# Altium schematic symbol library Ultrasound.SchLib: 31 symbols
Pins are listed as number, name and electrical type; pins without a type are passive.

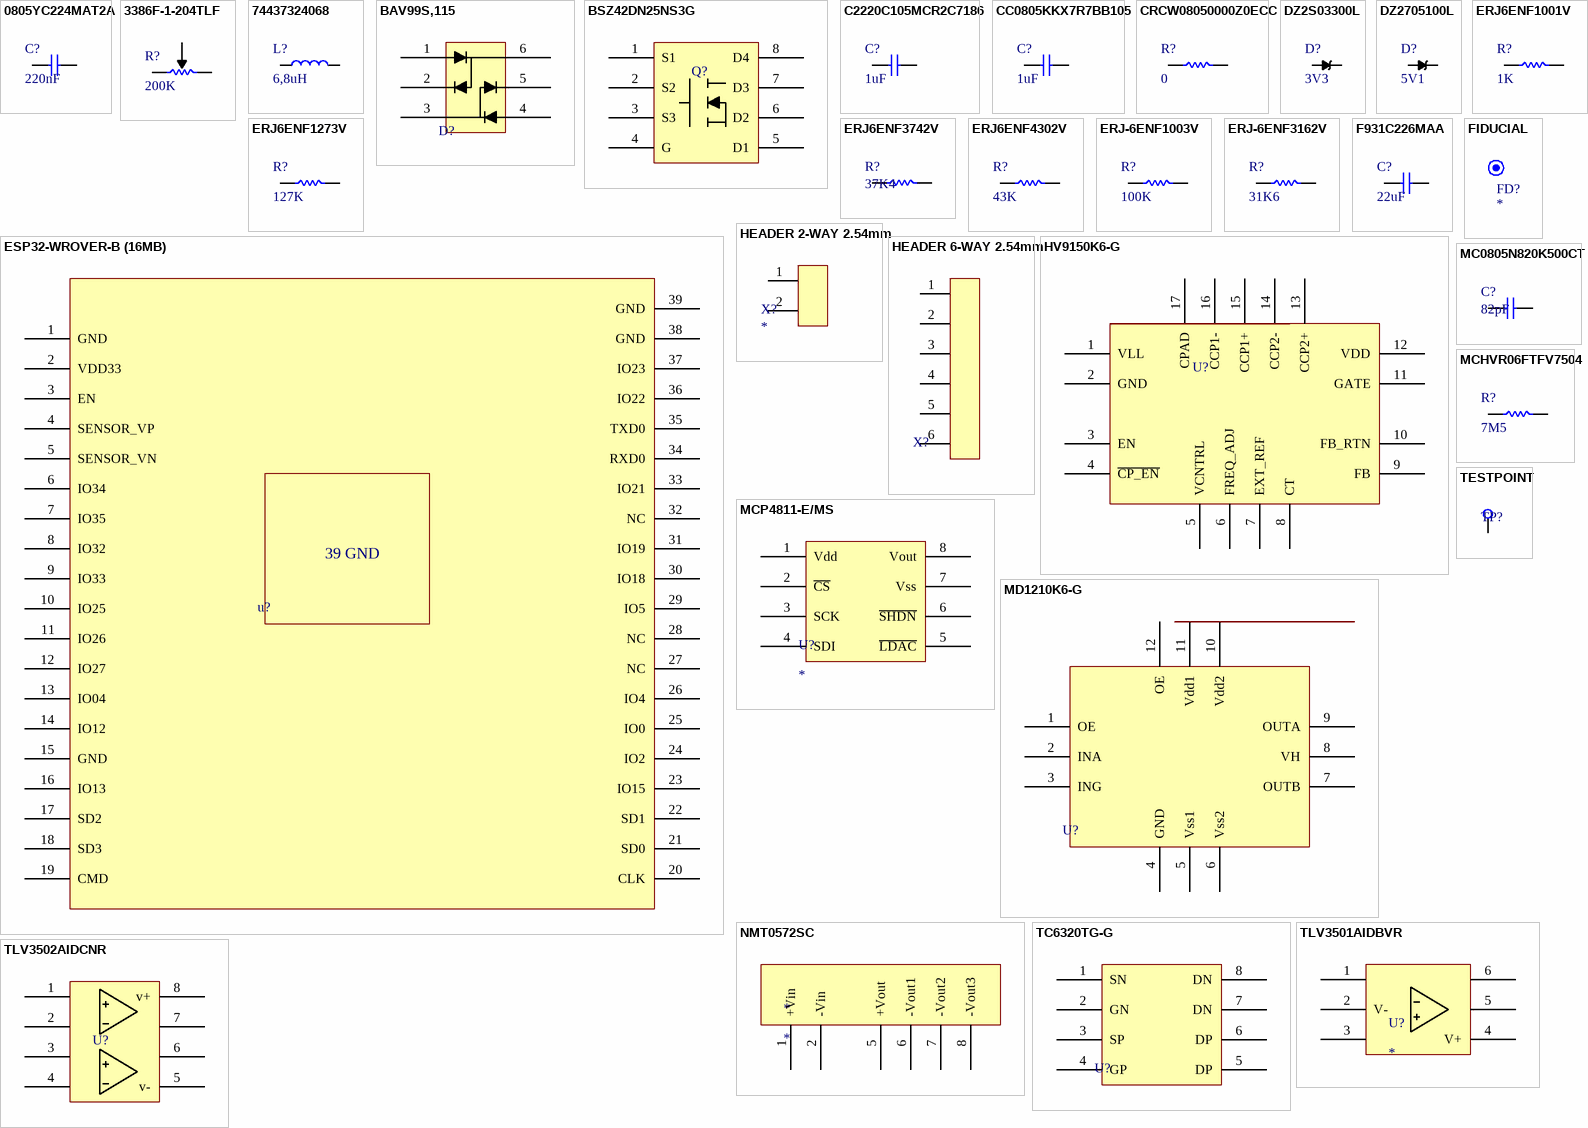
[diagram p0: symbols 0805YC224MAT2A to TLV3502AIDCNR]

## 0805YC224MAT2A
designator C?, comment 220nF
CAPACITOR 220nF 0805 20%16V; Manufacturer: Kyocera AVX; Manufacturer Part Number: 0805YC224MAT2A; Tolerance: 20%; Voltage Rating: 16V; Dielectric: X7R; Dissipation Factor: 3.5%; Supplier 1: Farnell; Stock 1: 0; Pricing 1: 4000=0.0977, 8000=0.0958, 16000=0.0934 (EUR); Mount: Surface Mount; Case/Package: 0805; Number of Pins: 2; Case Code (Imperial): 0805; Case Code (Metric): 2012; Min Operating Temperature: -55°C; Max Operating Temperature: 125°C; Capacitance: 220nF; Packaging: Tape and Reel; Package Quantity: 4000; Voltage Rating (DC): 16V; Termination: SMD/SMT; Length: 2.01mm; Height: 0.94mm; Width: 1.25mm; Thickness: 0.037inch; Depth: 1.25mm; REACH SVHC: Unknown; Lead Free: Lead Free; ComponentLink1URL: http://www.mouser.com/ds/2/40/X7RDielectric-777024.pdf?src-supplier=Mouser; ComponentLink1Description: http://www.mouser.com/ds/2/40/X7RDielectric-777024.pdf?src-supplier=Mouser; ComponentLink2URL: http://www.avx.com/docs/Catalogs/cx7r.pdf?src-supplier=Avnet; ComponentLink2Description: http://www.avx.com/docs/Catalogs/cx7r.pdf?src-supplier=Avnet; ComponentLink3URL: http://datasheets.avx.com/X7RDielectric.pdf?src-supplier=Digi-Key; ComponentLink3Description: http://datasheets.avx.com/X7RDielectric.pdf?src-supplier=Digi-Key; Value: 220nF
footprint CAP 0805/2012 (Chip Capacitor, 2-Leads, Body 2.00x1.20mm, IPC Medium Density)
pins: 1, 2

## 3386F-1-204TLF
designator R?, comment 200K
POT 200K 3386F 10% 500mW trimmer potentiometer; Manufacturer: Bourns; Manufacturer Part Number: 3386F-1-204TLF; Resistance: 200kR; Voltage Rating: 300V; Temperature Coefficient: 100ppm/°C; Number of Turns: 1; Supplier 1: Mouser; Stock 1: 198; Pricing 1: 1=2.48, 10=1.95, 50=1.88, 100=1.73, 1000=1.35, 10000=1.08 (USD); Mount: Through Hole; Weight: 0.03oz; Min Operating Temperature: -55°C; Max Operating Temperature: 125°C; Tolerance: 10%; Power Rating: 500mW; Packaging: Rail/Tube; Package Quantity: 100; Composition: Cermet; Termination: Pin; Max Power Dissipation: 500mW; Military Standard: Not; Length: 9.53mm; Height: 0.19inch; Depth: 9.53mm; Radiation Hardening: No; REACH SVHC: No SVHC; ComponentLink1URL: http://uk.rs-online.com/webdocs/069c/0900766b8069ccf9.pdf?src-supplier=RSComponents; ComponentLink1Description: http://uk.rs-online.com/webdocs/069c/0900766b8069ccf9.pdf?src-supplier=RSComponents; ComponentLink2URL: http://www.farnell.com/datasheets/1815119.pdf?src-supplier=Element14; ComponentLink2Description: http://www.farnell.com/datasheets/1815119.pdf?src-supplier=Element14; ComponentLink3URL: http://www.bourns.com/data/global/pdfs/3386.pdf?src-supplier=Avnet; ComponentLink3Description: http://www.bourns.com/data/global/pdfs/3386.pdf?src-supplier=Avnet; ComponentLink4URL: http://www.bourns.com/docs/Product-Datasheets/3386.pdf?src-supplier=Digi-Key; ComponentLink4Description: http://www.bourns.com/docs/Product-Datasheets/3386.pdf?src-supplier=Digi-Key; Value: 200K
footprint BOURNS 3386F
pins: 1, 2, 3

## 74437324068
designator L?, comment 6,8uH
INDUCTOR 6,8 uH 20% 1,75 A; Manufacturer: Wurth Electronics; Manufacturer Part Number: 74437324068; Core Material: Ferrite,Composite; Frequency: 29MHz; Current Rating: 1.75A; Saturation Current: 3.5A; Shielding: Shielded; Inductance: 6.8uH; DC Resistance (DCR): 172mR; Test Frequency: 100kHz; Supplier 1: Farnell; Stock 1: 0; Mount: Surface Mount; Case/Package: Nonstandard; Min Operating Temperature: -40°C; Max Operating Temperature: 125°C; Tolerance: 20%; Inductance Tolerance: 20%; Package Quantity: 3000; Packaging: Tape and Reel; Self Resonant Frequency: 29MHz; Composition: Wirewound; Max DC Current: 1.75A; Termination: SMD/SMT; RMS Current (Irms): 1.75A; Series Resistance: 172mR; Length: 4.45mm; Height: 1.8mm; Width: 4.06mm; Height - Seated (Max): 0.079inch; Depth: 4.06mm; REACH SVHC: Unknown; ComponentLink1URL: http://www.farnell.com/datasheets/1735828.pdf?src-supplier=Element14; ComponentLink1Description: http://www.farnell.com/datasheets/1735828.pdf?src-supplier=Element14; ComponentLink2URL: http://katalog.we-online.de/pbs/datasheet/74437324068.pdf?src-supplier=Digi-Key; ComponentLink2Description: http://katalog.we-online.de/pbs/datasheet/74437324068.pdf?src-supplier=Digi-Key; ComponentLink3URL: http://www.mouser.com/ds/2/445/74437324068-538785.pdf?src-supplier=Mouser; ComponentLink3Description: http://www.mouser.com/ds/2/445/74437324068-538785.pdf?src-supplier=Mouser; Value: 6,8uH
footprint WE-LHMI_4020 (SMT Power Inductor, 2-Leads, body 4.06x4.06mm)
pins: 1, 2

## BAV99S,115
designator D?  (value not drawn)
BAV99S Diodes 100 V; Manufacturer: NXP Semiconductors; Manufacturer Part Number: BAV99S,115; Forward Current: 200mA; Reverse Recovery Time: 4ns; Max Repetitive Reverse Voltage (Vrrm): 100V; Forward Voltage: 1.25V; Peak Non-Repetitive Surge Current: 4A; Max Reverse Leakage Current: 500nA; Power Dissipation: 250mW; Voltage: 75V; Current: 2A; Supplier 1: Farnell; Stock 1: 54000; Pricing 1: 3000=0.0431, 9000=0.0336 (EUR); Mount: Surface Mount; Case/Package: TSSOP; Number of Pins: 6; Weight: 0.01lb; Min Operating Temperature: -65°C; Max Operating Temperature: 150°C; Packaging: Tape and Reel; Max Reverse Voltage (DC): 100V; Average Rectified Current: 200mA; Max Surge Current: 4A; Recovery Time: 4ns; Package Quantity: 1; Max Forward Surge Current (Ifsm): 4A; Peak Reverse Current: 500nA; Length: 2.2mm; Height: 1mm; Width: 1.35mm; Radiation Hardening: No; Lead Free: Lead Free; REACH SVHC: No SVHC; ComponentLink1URL: http://www.nxp.com/documents/data_sheet/BAV99_SER.pdf?ecmp=mouser&src-supplier=Mouser; ComponentLink1Description: http://www.nxp.com/documents/data_sheet/BAV99_SER.pdf?ecmp=mouser&src-supplier=Mouser; ComponentLink2URL: http://www.nxp.com/documents/data_sheet/BAV99_SER.pdf?src-supplier=Future+Electronics; ComponentLink2Description: http://www.nxp.com/documents/data_sheet/BAV99_SER.pdf?src-supplier=Future+Electronics; ComponentLink3URL: http://www.farnell.com/datasheets/953882.pdf?src-supplier=Element14; ComponentLink3Description: http://www.farnell.com/datasheets/953882.pdf?src-supplier=Element14; ComponentLink4URL: http://www.nxp.com/documents/data_sheet/BAV99_SER.pdf?src-supplier=Avnet+Europe; ComponentLink4Description: http://www.nxp.com/documents/data_sheet/BAV99_SER.pdf?src-supplier=Avnet+Europe; ComponentLink5URL: http://www.farnell.com/datasheets/953882.pdf?src-supplier=Farnell; ComponentLink5Description: http://www.farnell.com/datasheets/953882.pdf?src-supplier=Farnell; ComponentLink6URL: http://www.nxp.com/documents/data_sheet/BAV99_SER.pdf?src-supplier=Avnet; ComponentLink6Description: http://www.nxp.com/documents/data_sheet/BAV99_SER.pdf?src-supplier=Avnet; ComponentLink7URL: http://www.nxp.com/documents/data_sheet/BAV99_SER.pdf?src-supplier=Digi-Key; ComponentLink7Description: http://www.nxp.com/documents/data_sheet/BAV99_SER.pdf?src-supplier=Digi-Key; ComponentLink8URL: http://www.nxp.com/documents/data_sheet/BAV99_SER.pdf?src-supplier=Avnet+Asia; ComponentLink8Description: http://www.nxp.com/documents/data_sheet/BAV99_SER.pdf?src-supplier=Avnet+Asia
footprint SOT-363 (SOT363, 6-Leads, Body 2.00x2.10mm, Pitch 0.65mm, IPC Medium Density)
pins: 1, 2, 3, 4, 5, 6

## BSZ42DN25NS3G
designator Q?  (value not drawn)
BSZ42DN25NS3G 250 V MOSFET; Manufacturer: Infineon; Continuous Drain Current (ID): 5A; Turn-Off Delay Time: 8ns; Turn-On Delay Time: 3ns; Gate to Source Voltage (Vgs): 20V; Rise Time: 2ns; Input Capacitance: 530pF; Max Power Dissipation: 40W; Drain to Source Resistance: 425mR; Element Configuration: Single; Rds On Max: 400mR; Drain to Source Breakdown Voltage: 250V; Fall Time: 5ns; Power Dissipation: 33.8W; Supplier 1: Mouser; Manufacturer Part Number: BSZ42DN25NS3G; Stock 1: 0; Case/Package: TO-220-3; Number of Pins: 8; Min Operating Temperature: -55°C; Max Operating Temperature: 150°C; Package Quantity: 1; Packaging: Tape and Reel; Length: 3.4mm; Height: 1.1mm; Width: 3.4mm; Halogen Free: Halogen Free; ComponentLink1URL: http://www.infineon.com/dgdl/BSZ42DN25NS3+Rev2.2.pdf?folderId=db3a304325305e6d012596c6ca7b290a&fileId=db3a30432ad629a6012b15e5a93b1a8b&src-supplier=Digi-Key; ComponentLink1Description: http://www.infineon.com/dgdl/BSZ42DN25NS3+Rev2.2.pdf?folderId=db3a304325305e6d012596c6ca7b290a&fileId=db3a30432ad629a6012b15e5a93b1a8b&src-supplier=Digi-Key; ComponentLink2URL: http://www.mouser.com/ds/2/196/BSZ42DN25NS3%20Rev2.3-91542.pdf?src-supplier=Mouser; ComponentLink2Description: http://www.mouser.com/ds/2/196/BSZ42DN25NS3%20Rev2.3-91542.pdf?src-supplier=Mouser
footprint BSZ42DN25NS3
pins: 1 S1, 2 S2, 3 S3, 4 G, 5 D1, 6 D2, 7 D3, 8 D4

## C2220C105MCR2C7186
designator C?, comment 1uF
CAPACITOR 1uF 2220 20% 500V; Manufacturer: KEMET; Manufacturer Part Number: C2220C105MCR2C7186; Dielectric Material: Ceramic; Dielectric: X7R; Voltage Rating (DC): 1kV; Supplier 1: Farnell; Stock 1: 0; Mount: Surface Mount; Case/Package: 2220; Case Code (Imperial): 2220; Case Code (Metric): 5650; Min Operating Temperature: -55°C; Max Operating Temperature: 125°C; Tolerance: 20%; Capacitance: 1uF; Package Quantity: 1; Voltage Rating: 500V; Packaging: Tape and Reel; Termination: SMD/SMT; Length: 6mm; Height: 5mm; Width: 5mm; Thickness: 0.217inch; Depth: 5mm; ComponentLink1URL: https://search.kemet.com/component-edge/download/datasheet/C2220C105MCR2C7186.pdf?src-supplier=Digi-Key; ComponentLink1Description: https://search.kemet.com/component-edge/download/datasheet/C2220C105MCR2C7186.pdf?src-supplier=Digi-Key; ComponentLink2URL: https://api.kemet.com/component-edge/download/datasheet/C2220C105MCR2C7186.pdf?src-supplier=Digi-Key; ComponentLink2Description: https://api.kemet.com/component-edge/download/datasheet/C2220C105MCR2C7186.pdf?src-supplier=Digi-Key; Value: 1uF
footprint CAP 2220/5650 (Chip Capacitor, 2-Leads, Body 5.70x5.00mm, IPC Medium Density)
pins: 1, 2

## CC0805KKX7R7BB105
designator C?, comment 1uF
CAPACITOR 1uF 0805 10% 16V; Manufacturer: Yageo; Manufacturer Part Number: CC0805KKX7R7BB105; Dielectric: X7R; Supplier 1: Farnell; Stock 1: 0; Mount: Surface Mount; Case/Package: 0805; Case Code (Metric): 2012; Case Code (Imperial): 0805; Min Operating Temperature: -55°C; Max Operating Temperature: 125°C; Capacitance: 1uF; Tolerance: 10%; Packaging: Tape and Reel; Voltage Rating: 16V; Package Quantity: 1; Termination: SMD/SMT; Voltage Rating (DC): 16V; Length: 2mm; Depth: 1.25mm; Width: 0.049inch; Thickness: 0.049inch; Radiation Hardening: No; REACH SVHC: No SVHC; Lead Free: Lead Free; Halogen Free: Halogen Free; ComponentLink1URL: http://www.yageo.com/documents/recent/UPY-GPHC_X7R_6.3V-to-50V_18.pdf?src-supplier=Digi-Key; ComponentLink1Description: http://www.yageo.com/documents/recent/UPY-GPHC_X7R_6.3V-to-50V_18.pdf?src-supplier=Digi-Key; ComponentLink2URL: http://www.mouser.com/ds/2/447/Yageo_UPY-GP_NP0_16V-to-50V_9-358835.pdf?src-supplier=Mouser; ComponentLink2Description: http://www.mouser.com/ds/2/447/Yageo_UPY-GP_NP0_16V-to-50V_9-358835.pdf?src-supplier=Mouser; ComponentLink3URL: https://www.verical.com/server-webapp/html/getDatasheet?partID=251802&src-supplier=Verical; ComponentLink3Description: https://www.verical.com/server-webapp/html/getDatasheet?partID=251802&src-supplier=Verical; ComponentLink4URL: http://www.farnell.com/datasheets/1489800.pdf?src-supplier=Element14; ComponentLink4Description: http://www.farnell.com/datasheets/1489800.pdf?src-supplier=Element14; ComponentLink5URL: http://www.yageo.com/documents/recent/UPY-GPHC_X7R_6.3V-to-50V_8.pdf?src-supplier=Avnet; ComponentLink5Description: http://www.yageo.com/documents/recent/UPY-GPHC_X7R_6.3V-to-50V_8.pdf?src-supplier=Avnet; Value: 1uF
footprint CAP 0805/2012 (Chip Capacitor, 2-Leads, Body 2.00x1.20mm, IPC Medium Density)
pins: 1, 2

## CRCW08050000Z0ECC
designator R?, comment 0
RESISTOR 0K 0805 1% 1/8mW; Manufacturer: Vishay Dale; Manufacturer Part Number: CRCW08050000Z0ECC; Supplier 1: Mouser; Stock 1: 39810; Pricing 1: 1=0.1, 10=0.029, 50=0.029, 100=0.011, 1000=0.004, 10000=0.004 (USD); Value: 0
footprint RES 0805/2012 (Chip Resistor, 2-Leads, Body 2.00x1.25mm, IPC Medium Density)
pins: 1, 2

## DZ2S03300L
designator D?, comment 3V3
ZENER Diode 3V3; Manufacturer: Panasonic SSG; Manufacturer Part Number: DZ2S03300L; Tolerance: 5%; Max Power Dissipation: 150mW; Impedance: 130R; Max Reverse Leakage Current: 20uA; Zener Voltage: 3.3V; Test Current: 5mA; Element Configuration: Single; Supplier 1: Mouser; Stock 1: 3405; Pricing 1: 1=0.46, 10=0.307, 50=0.307, 100=0.191, 1000=0.128, 10000=0.1 (USD); Mount: Surface Mount; Number of Pins: 2; Min Operating Temperature: -40°C; Max Operating Temperature: 150°C; Package Quantity: 3000; Packaging: Tape and Reel; Voltage Tolerance: 5%; Power Dissipation: 150mW; Length: 1.2mm; Height: 0.6mm; Width: 0.8mm; ComponentLink1URL: http://www.mouser.com/ds/2/315/DZ2S033_CED-219741.pdf?src-supplier=Mouser; ComponentLink1Description: http://www.mouser.com/ds/2/315/DZ2S033_CED-219741.pdf?src-supplier=Mouser; Value: 3V3
footprint SSMINI2 DZ2S03300L
pins: 1 A, 2 K

## DZ2705100L
designator D?, comment 5V1
ZENER Diode 5V1; Manufacturer: Panasonic SSG; Manufacturer Part Number: DZ2705100L; Max Power Dissipation: 120mW; Tolerance: 5%; Forward Voltage: 1V; Impedance: 60R; Zener Voltage: 5.1V; Max Reverse Leakage Current: 1uA; Test Current: 5mA; Element Configuration: Single; Supplier 1: Farnell; Stock 1: 0; Pricing 1: 5=0.186, 25=0.182, 100=0.0832, 250=0.0767, 500=0.0588, 1000=0.0357, 5000=0.0284 (EUR); Mount: Surface Mount; Case/Package: SMD/SMT; Number of Pins: 2; Min Operating Temperature: -40°C; Max Operating Temperature: 150°C; Packaging: Tape and Reel; Package Quantity: 10000; Voltage Tolerance: 5%; Length: 1mm; Height: 0.47mm; Width: 0.6mm; REACH SVHC: Unknown; Lead Free: Lead Free; ComponentLink1URL: http://www.farnell.com/datasheets/1912112.pdf?src-supplier=Element14; ComponentLink1Description: http://www.farnell.com/datasheets/1912112.pdf?src-supplier=Element14; Value: 5V1
footprint DZ2705100L -  Diodo Zener
pins: 1 A, 2 K

## ERJ6ENF1001V
designator R?, comment 1K
RESISTOR 1K 0805 1% 1/8W; Manufacturer: Panasonic; Manufacturer Part Number: ERJ6ENF1001V; Resistance: 1kR; Temperature Coefficient: 100ppm/°C; Power Rating: 125mW; Voltage Rating (DC): 150V; Supplier 1: Farnell; Stock 1: 0; Mount: Surface Mount; Case/Package: 0805; Number of Pins: 2; Contact Plating: Tin; Case Code (Metric): 2012; Case Code (Imperial): 0805; Min Operating Temperature: -55°C; Max Operating Temperature: 155°C; Tolerance: 1%; Packaging: Tape and Reel; Composition: Thick Film; Number of Terminations: 2; Package Quantity: 1; Voltage Rating: 150V; Termination: SMD/SMT; Military Standard: Not; Max Power Dissipation: 125mW; Features: Automotive AEC-Q200; Length: 2mm; Height: 0.6mm; Width: 0.049inch; Depth: 1.25mm; Radiation Hardening: No; REACH SVHC: No SVHC; Lead Free: Lead Free; ComponentLink1URL: http://www.jameco.com/Jameco/Products/ProdDS/1988962.pdf?src-supplier=Jameco; ComponentLink1Description: http://www.jameco.com/Jameco/Products/ProdDS/1988962.pdf?src-supplier=Jameco; ComponentLink2URL: http://www.farnell.com/datasheets/426256.pdf?src-supplier=Element14; ComponentLink2Description: http://www.farnell.com/datasheets/426256.pdf?src-supplier=Element14; ComponentLink3URL: http://www.alliedelec.com/m/d/623f45ff1957d936ff56d46fd1c28cac.pdf?src-supplier=Allied+Electronics; ComponentLink3Description: http://www.alliedelec.com/m/d/623f45ff1957d936ff56d46fd1c28cac.pdf?src-supplier=Allied+Electronics; ComponentLink4URL: http://www.farnell.com/datasheets/1678782.pdf?src-supplier=Element14; ComponentLink4Description: http://www.farnell.com/datasheets/1678782.pdf?src-supplier=Element14; ComponentLink5URL: http://industrial.panasonic.com/www-data/pdf/AOA0000/AOA0000CE2.pdf?src-supplier=Avnet; ComponentLink5Description: http://industrial.panasonic.com/www-data/pdf/AOA0000/AOA0000CE2.pdf?src-supplier=Avnet; ComponentLink6URL: http://industrial.panasonic.com/www-data/pdf/AOA0000/AOA0000CE2.pdf?src-supplier=Future+Electronics; ComponentLink6Description: http://industrial.panasonic.com/www-data/pdf/AOA0000/AOA0000CE2.pdf?src-supplier=Future+Electronics; ComponentLink7URL: http://industrial.panasonic.com/www-data/pdf/AOA0000/AOA0000CE2.pdf?src-supplier=Avnet+Asia; ComponentLink7Description: http://industrial.panasonic.com/www-data/pdf/AOA0000/AOA0000CE2.pdf?src-supplier=Avnet+Asia; Value: 1K
footprint RES 0805/2012 (Chip Resistor, 2-Leads, Body 2.00x1.25mm, IPC Medium Density)
pins: 1, 2

## ERJ6ENF1273V
designator R?, comment 127K
RESISTOR 127K 0805 1% 1/8mW; Manufacturer: Panasonic; Manufacturer Part Number: ERJ6ENF1273V; Resistance: 127kR; Power Rating: 125mW; Voltage Rating: 150V; Temperature Coefficient: 100ppm/°C; Supplier 1: Farnell; Stock 1: 0; Mount: Surface Mount; Case/Package: 0805; Case Code (Metric): 2012; Case Code (Imperial): 0805; Contact Plating: Tin; Min Operating Temperature: -55°C; Max Operating Temperature: 155°C; Tolerance: 1%; Packaging: Tape and Reel; Package Quantity: 1; Composition: Thick Film; Number of Terminations: 2; Military Standard: Not; Max Power Dissipation: 125mW; Voltage Rating (DC): 150V; Features: Automotive AEC-Q200; Length: 2mm; Height: 0.028inch; Width: 0.049inch; Depth: 1.25mm; REACH SVHC: Yes; Lead Free: Lead Free; ComponentLink1URL: http://www.farnell.com/datasheets/1678782.pdf?src-supplier=Element14; ComponentLink1Description: http://www.farnell.com/datasheets/1678782.pdf?src-supplier=Element14; ComponentLink2URL: http://industrial.panasonic.com/www-data/pdf/AOA0000/AOA0000CE2.pdf?src-supplier=Avnet; ComponentLink2Description: http://industrial.panasonic.com/www-data/pdf/AOA0000/AOA0000CE2.pdf?src-supplier=Avnet; ComponentLink3URL: http://www.mouser.com/ds/2/315/AOA0000C283-1093288.pdf?src-supplier=Mouser; ComponentLink3Description: http://www.mouser.com/ds/2/315/AOA0000C283-1093288.pdf?src-supplier=Mouser; Value: 127K
footprint RES 0805/2012 (Chip Resistor, 2-Leads, Body 2.00x1.25mm, IPC Medium Density)
pins: 1, 2

## ERJ6ENF3742V
designator R?, comment 37K4
RESISTOR 37K4 0805 1% 1/8mW; Manufacturer: Panasonic; Manufacturer Part Number: ERJ-6ENF3742V; Power Rating: 125mW; Voltage Rating: 150V; Resistance: 37.4kR; Temperature Coefficient: 100ppm/°C; Supplier 1: Farnell; Stock 1: 0; Mount: Surface Mount; Case/Package: 0805; Case Code (Imperial): 0805; Case Code (Metric): 2012; Contact Plating: Tin; Min Operating Temperature: -55°C; Max Operating Temperature: 155°C; Tolerance: 1%; Packaging: Tape and Reel; Package Quantity: 1; Termination: SMD/SMT; Composition: Thick Film; Number of Terminations: 2; Military Standard: Not; Max Power Dissipation: 125mW; Voltage Rating (DC): 150V; Features: Automotive AEC-Q200; Length: 2mm; Height: 0.6mm; Width: 1.2mm; Depth: 1.25mm; Height - Seated (Max): 0.028inch; REACH SVHC: Unknown; Lead Free: Lead Free; ComponentLink1URL: http://www.farnell.com/datasheets/1678782.pdf?src-supplier=Farnell; ComponentLink1Description: http://www.farnell.com/datasheets/1678782.pdf?src-supplier=Farnell; ComponentLink2URL: http://www.industrial.panasonic.com/www-data/pdf/AOA0000/AOA0000CE2.pdf?src-supplier=Element14; ComponentLink2Description: http://www.industrial.panasonic.com/www-data/pdf/AOA0000/AOA0000CE2.pdf?src-supplier=Element14; ComponentLink3URL: http://www.farnell.com/datasheets/1678782.pdf?src-supplier=Element14; ComponentLink3Description: http://www.farnell.com/datasheets/1678782.pdf?src-supplier=Element14; ComponentLink4URL: http://industrial.panasonic.com/www-data/pdf/AOA0000/AOA0000CE2.pdf?src-supplier=Avnet; ComponentLink4Description: http://industrial.panasonic.com/www-data/pdf/AOA0000/AOA0000CE2.pdf?src-supplier=Avnet; Value: 37K4
footprint RES 0805/2012 (Chip Resistor, 2-Leads, Body 2.00x1.25mm, IPC Medium Density)
pins: 1, 2

## ERJ6ENF4302V
designator R?, comment 43K
RESISTOR 43K 0805 1% 1/8W; Manufacturer: Panasonic; Manufacturer Part Number: ERJ6ENF4302V; Resistance: 43kR; Temperature Coefficient: 100ppm/°C; Power Rating: 125mW; Voltage Rating: 150V; Supplier 1: Farnell; Stock 1: 0; Mount: Surface Mount; Case/Package: 0805; Contact Plating: Tin; Case Code (Metric): 2012; Case Code (Imperial): 0805; Min Operating Temperature: -55°C; Max Operating Temperature: 155°C; Tolerance: 1%; Composition: Thick Film; Packaging: Tape and Reel; Package Quantity: 1; Number of Terminations: 2; Termination: SMD/SMT; Military Standard: Not; Max Power Dissipation: 125mW; Voltage Rating (DC): 150V; Features: Automotive AEC-Q200; Length: 2mm; Height: 0.6mm; Width: 0.049inch; Depth: 1.25mm; Radiation Hardening: No; REACH SVHC: Yes; ComponentLink1URL: http://industrial.panasonic.com/www-data/pdf/AOA0000/AOA0000CE2.pdf?src-supplier=Avnet+Europe; ComponentLink1Description: http://industrial.panasonic.com/www-data/pdf/AOA0000/AOA0000CE2.pdf?src-supplier=Avnet+Europe; ComponentLink2URL: http://www.farnell.com/datasheets/1678782.pdf?src-supplier=Element14; ComponentLink2Description: http://www.farnell.com/datasheets/1678782.pdf?src-supplier=Element14; Value: 43K
footprint RES 0805/2012 (Chip Resistor, 2-Leads, Body 2.00x1.25mm, IPC Medium Density)
pins: 1, 2

## ERJ-6ENF1003V
designator R?, comment 100K
RESISTOR 100K 0805 1% 1/8W; Manufacturer: Panasonic; Manufacturer Part Number: ERJ-6ENF1003V; Resistance: 100kR; Temperature Coefficient: 100ppm/°C; Power Rating: 125mW; Voltage Rating: 150V; Supplier 1: Farnell; Stock 1: 0; Mount: Surface Mount; Case/Package: 0805; Number of Pins: 2; Contact Plating: Tin; Case Code (Metric): 2012; Case Code (Imperial): 0805; Min Operating Temperature: -55°C; Max Operating Temperature: 155°C; Tolerance: 1%; Composition: Thick Film; Packaging: Tape and Reel; Package Quantity: 1; Number of Terminations: 2; Military Standard: Not; Termination: SMD/SMT; Max Power Dissipation: 125mW; Voltage Rating (DC): 150V; Features: Automotive AEC-Q200; Length: 2mm; Height: 0.6mm; Width: 0.049inch; Depth: 1.25mm; Radiation Hardening: No; REACH SVHC: No SVHC; Lead Free: Lead Free; ComponentLink1URL: http://www.farnell.com/datasheets/426256.pdf?src-supplier=Element14; ComponentLink1Description: http://www.farnell.com/datasheets/426256.pdf?src-supplier=Element14; ComponentLink2URL: http://www.farnell.com/datasheets/1678782.pdf?src-supplier=Element14; ComponentLink2Description: http://www.farnell.com/datasheets/1678782.pdf?src-supplier=Element14; ComponentLink3URL: http://www.jameco.com/Jameco/Products/ProdDS/1988989.pdf?src-supplier=Jameco; ComponentLink3Description: http://www.jameco.com/Jameco/Products/ProdDS/1988989.pdf?src-supplier=Jameco; ComponentLink4URL: http://industrial.panasonic.com/www-data/pdf/AOA0000/AOA0000CE2.pdf?src-supplier=Future+Electronics; ComponentLink4Description: http://industrial.panasonic.com/www-data/pdf/AOA0000/AOA0000CE2.pdf?src-supplier=Future+Electronics; ComponentLink5URL: http://industrial.panasonic.com/www-data/pdf/AOA0000/AOA0000CE2.pdf?src-supplier=Avnet+Europe; ComponentLink5Description: http://industrial.panasonic.com/www-data/pdf/AOA0000/AOA0000CE2.pdf?src-supplier=Avnet+Europe; ComponentLink6URL: http://www.mouser.com/ds/2/315/AOA0000C283-1093288.pdf?src-supplier=Mouser; ComponentLink6Description: http://www.mouser.com/ds/2/315/AOA0000C283-1093288.pdf?src-supplier=Mouser; ComponentLink7URL: https://www.alliedelec.com/m/d/623f45ff1957d936ff56d46fd1c28cac.pdf?src-supplier=Allied+Electronics; ComponentLink7Description: https://www.alliedelec.com/m/d/623f45ff1957d936ff56d46fd1c28cac.pdf?src-supplier=Allied+Electronics; ComponentLink8URL: http://industrial.panasonic.com/www-data/pdf/AOA0000/AOA0000CE2.pdf?src-supplier=Avnet; ComponentLink8Description: http://industrial.panasonic.com/www-data/pdf/AOA0000/AOA0000CE2.pdf?src-supplier=Avnet; Value: 100K
footprint RES 0805/2012 (Chip Resistor, 2-Leads, Body 2.00x1.25mm, IPC Medium Density)
pins: 1, 2

## ERJ-6ENF3162V
designator R?, comment 31K6
RESISTOR 31K6 0805 1% 1/8mW; Manufacturer: Panasonic; Manufacturer Part Number: ERJ-6ENF3162V; Voltage Rating: 150V; Resistance: 31.6kR; Power Rating: 125mW; Temperature Coefficient: 100ppm/°C; Supplier 1: Farnell; Stock 1: 0; Mount: Surface Mount; Case/Package: 0805; Case Code (Imperial): 0805; Case Code (Metric): 2012; Contact Plating: Tin; Min Operating Temperature: -55°C; Max Operating Temperature: 155°C; Packaging: Tape and Reel; Tolerance: 1%; Package Quantity: 1; Composition: Thick Film; Number of Terminations: 2; Termination: SMD/SMT; Military Standard: Not; Max Power Dissipation: 125mW; Voltage Rating (DC): 150V; Features: Automotive AEC-Q200; Length: 2mm; Height: 0.6mm; Width: 1.2mm; Depth: 1.25mm; REACH SVHC: No SVHC; Lead Free: Lead Free; ComponentLink1URL: http://www.farnell.com/datasheets/1678782.pdf?src-supplier=Element14; ComponentLink1Description: http://www.farnell.com/datasheets/1678782.pdf?src-supplier=Element14; ComponentLink2URL: http://www.industrial.panasonic.com/www-data/pdf/AOA0000/AOA0000CE2.pdf?src-supplier=Element14; ComponentLink2Description: http://www.industrial.panasonic.com/www-data/pdf/AOA0000/AOA0000CE2.pdf?src-supplier=Element14; ComponentLink3URL: http://industrial.panasonic.com/www-data/pdf/AOA0000/AOA0000CE2.pdf?src-supplier=Avnet; ComponentLink3Description: http://industrial.panasonic.com/www-data/pdf/AOA0000/AOA0000CE2.pdf?src-supplier=Avnet; ComponentLink4URL: https://www.alliedelec.com/m/d/623f45ff1957d936ff56d46fd1c28cac.pdf?src-supplier=Allied+Electronics; ComponentLink4Description: https://www.alliedelec.com/m/d/623f45ff1957d936ff56d46fd1c28cac.pdf?src-supplier=Allied+Electronics; Value: 31K6
footprint RES 0805/2012 (Chip Resistor, 2-Leads, Body 2.00x1.25mm, IPC Medium Density)
pins: 1, 2

## ESP32-WROVER-B (16MB)
designator u?  (value not drawn)
ESP32-WROVER-B (16MB)
footprint *XCVR_ESP32-WROVER-B_(16MB)
pins: 1 GND, 2 VDD33, 3 EN, 4 SENSOR_VP, 5 SENSOR_VN, 6 IO34, 7 IO35, 8 IO32, 9 IO33, 10 IO25, 11 IO26, 12 IO27, 13 IO04, 14 IO12, 15 GND, 16 IO13, 17 SD2, 18 SD3, 19 CMD, 20 CLK, 21 SD0, 22 SD1, 23 IO15, 24 IO2, 25 IO0, 26 IO4, 27 NC, 28 NC, 29 IO5, 30 IO18, 31 IO19, 32 NC, 33 IO21, 34 RXD0, 35 TXD0, 36 IO22, 37 IO23, 38 GND, 39 GND
text: 39 GND

## F931C226MAA
designator C?, comment 22uF
CAPACITOR 22uF 1206 20% 16V; Manufacturer: Kyocera AVX; Manufacturer Part Number: F931C226MAA; Supplier 1: Farnell; Stock 1: 0; Pricing 1: 150=0.395, 250=0.29, 500=0.249, 1000=0.22, 2000=0.188, 10000=0.173 (EUR); Value: 22uF
footprint CAP 1206/3216 (Chip Capacitor, 2-Leads, Body 3.25x1.60mm, IPC Medium Density)
pins: 1, 2

## FIDUCIAL
designator FD?
FIDUCIAL
footprint Fiducial

## HEADER 2-WAY 2.54mm
designator X?
HEADER 2-WAY
footprint HEADER 2-WAY 2.54 mm
pins: 1, 2

## HEADER 6-WAY 2.54mm
designator X?
HEADER 6-WAY
footprint HEADER 6-WAY 2.54 mm
pins: 1, 2, 3, 4, 5, 6

## HV9150K6-G
designator U?  (value not drawn)
HV9150K6-G; Manufacturer: Microchip Supertex; Supplier 1: Mouser; Manufacturer Part Number: HV9150K6-G; Stock 1: 284; Pricing 1: 1=1.49, 10=1.47, 50=1.24, 100=1.13, 1000=1.13, 10000=1.13 (USD); Case/Package: QFN; Number of Pins: 16; Packaging: Tape and Reel
footprint QFN16 3X3
pins: 1 VLL, 2 GND, 3 EN, 4 ~{CP_EN}, 5 VCNTRL, 6 FREQ_ADJ, 7 EXT_REF, 8 CT, 9 FB, 10 FB_RTN, 11 GATE, 12 VDD, 13 CCP2+, 14 CCP2-, 15 CCP1+, 16 CCP1-, 17 CPAD

## MC0805N820K500CT
designator C?, comment 82pF
CAPACITOR 82pF 0805 5% 50V; Manufacturer: Multicomp; Manufacturer Part Number: MC0805N820K500CT; Tolerance: 10%; Dielectric: C0G; Supplier 1: Farnell; Stock 1: 3804; Pricing 1: 1=0.0563, 10=0.0483, 50=0.0402, 100=0.0313, 250=0.0245, 500=0.0201 (EUR); Case/Package: 0805; Number of Pins: 2; Case Code (Metric): 2012; Case Code (Imperial): 0805; Min Operating Temperature: -55°C; Max Operating Temperature: 125°C; Capacitance: 82pF; Voltage Rating: 50V; Packaging: Cut Tape; Voltage Rating (DC): 50V; REACH SVHC: Unknown; ComponentLink1URL: http://www.newark.com/pdfs/datasheets/spc/Ta-1100.pdf?src-supplier=Element14; ComponentLink1Description: http://www.newark.com/pdfs/datasheets/spc/Ta-1100.pdf?src-supplier=Element14; Value: 82pF
footprint CAP 0805/2012 (Chip Capacitor, 2-Leads, Body 2.00x1.20mm, IPC Medium Density)
pins: 1, 2

## MCHVR06FTFV7504
designator R?, comment 7M5
RESISTOR 7M5, 1206, 1%, 0.25W,  500V; Manufacturer: Multicomp; Manufacturer Part Number: MCHVR06FTFV7504; Supplier 1: Farnell; Stock 1: 4730; Pricing 1: 10=0.16, 100=0.107, 500=0.0719, 1000=0.0618, 2500=0.0542, 5000=0.0443, 25000=0.0403, 50000=0.0345 (EUR); Value: 7M5
footprint RES 1206/3216
pins: 1, 2

## MCP4811-E/MS
designator U?
MCP4811-E/MS; Manufacturer: Microchip; Resolution: 10b; Integral Nonlinearity (INL): 3.5LSB; Output Type: Voltage; Operating Supply Voltage: 5V; Number of Channels: 1; Interface: SPI,Serial; Min Supply Voltage: 2.7V; Max Supply Voltage: 5.5V; Nominal Supply Current: 330uA; Settling Time: 4.5us; Number of Bits: 10; Polarity: Bipolar; Reference Voltage: 2.048V; Input Offset Voltage (Vos): 820uV; Supplier 1: Mouser; Manufacturer Part Number: MCP4811-E/MS; Stock 1: 905; Pricing 1: 1=1.66, 10=1.64, 50=1.39, 100=1.25, 1000=1.25, 10000=1.25 (USD); Mount: Surface Mount; Case/Package: MSOP; Number of Pins: 8; Min Operating Temperature: -40°C; Max Operating Temperature: 125°C; Packaging: Rail/Tube; Number of DAC Channels: 1; Package Quantity: 100; Number of Converters: 1; Length: 3mm; Height: 0.95mm; Width: 3mm; Radiation Hardening: No; REACH SVHC: No SVHC; Lead Free: Lead Free; ComponentLink1URL: https://www.verical.com/server-webapp/html/getDatasheet?partID=723094&src-supplier=Verical; ComponentLink1Description: https://www.verical.com/server-webapp/html/getDatasheet?partID=723094&src-supplier=Verical; ComponentLink2URL: http://ww1.microchip.com/downloads/en/DeviceDoc/22244B.pdf?src-supplier=Avnet; ComponentLink2Description: http://ww1.microchip.com/downloads/en/DeviceDoc/22244B.pdf?src-supplier=Avnet; ComponentLink3URL: http://www.microchip.com/mymicrochip/filehandler.aspx?ddocname=en547908&src-supplier=Digi-Key; ComponentLink3Description: http://www.microchip.com/mymicrochip/filehandler.aspx?ddocname=en547908&src-supplier=Digi-Key; ComponentLink4URL: http://ww1.microchip.com/downloads/en/DeviceDoc/22244B.pdf?src-supplier=Avnet+Europe; ComponentLink4Description: http://ww1.microchip.com/downloads/en/DeviceDoc/22244B.pdf?src-supplier=Avnet+Europe; ComponentLink5URL: http://www.farnell.com/datasheets/630375.pdf?src-supplier=Element14; ComponentLink5Description: http://www.farnell.com/datasheets/630375.pdf?src-supplier=Element14; ComponentLink6URL: https://www.distrelec.biz/Web/Downloads/he/et/MCP4801_11_eng_datasheet.pdf?mime=application%2Fpdf&src-supplier=Distrelec; ComponentLink6Description: https://www.distrelec.biz/Web/Downloads/he/et/MCP4801_11_eng_datasheet.pdf?mime=application%2Fpdf&src-supplier=Distrelec; ComponentLink7URL: http://www.mouser.com/ds/2/268/22244B-54643.pdf?src-supplier=Mouser; ComponentLink7Description: http://www.mouser.com/ds/2/268/22244B-54643.pdf?src-supplier=Mouser; ComponentLink8URL: http://www.produktinfo.conrad.com/datenblaetter/1000000-1099999/001083269-da-01-en-DAC_10B_SPI_VREF_MCP4811_E_MS_MSOP_8_MCP.pdf?src-supplier=Conrad; ComponentLink8Description: http://www.produktinfo.conrad.com/datenblaetter/1000000-1099999/001083269-da-01-en-DAC_10B_SPI_VREF_MCP4811_E_MS_MSOP_8_MCP.pdf?src-supplier=Conrad
footprint MSOP8
pins: 1 Vdd, 2 ~{CS}, 3 SCK, 4 SDI, 5 ~{LDAC}, 6 ~{SHDN}, 7 Vss, 8 Vout

## MD1210K6-G
designator U?  (value not drawn)
MD1210K6-G; Manufacturer: Microchip Supertex; Rise Time: 6ns; Max Supply Voltage: 13V; Max Output Current: 2A; Min Supply Voltage: 4.5V; Number of Outputs: 2; Operating Supply Voltage: 12V; Propagation Delay: 7ns; Nominal Supply Current: 550uA; Supplier 1: Mouser; Manufacturer Part Number: MD1210K6-G; Stock 1: 9187; Pricing 1: 1=1.53, 10=1.51, 50=1.27, 100=1.16, 1000=1.16, 10000=1.16 (USD); Mount: Surface Mount; Case/Package: QFN; Number of Pins: 12; Min Operating Temperature: -20°C; Max Operating Temperature: 85°C; Packaging: Tape and Reel; Output Current: 2A; Package Quantity: 3000; Number of Drivers: 2; Fall Time: 6ns; Radiation Hardening: No; ComponentLink1URL: http://www.onlinecomponents.com/productFiles/mf-SUX/md1210.pdf?src-supplier=Onlinecomponents.com; ComponentLink1Description: http://www.onlinecomponents.com/productFiles/mf-SUX/md1210.pdf?src-supplier=Onlinecomponents.com; ComponentLink2URL: http://www.supertex.com/pdf/datasheets/MD1210.pdf?src-supplier=Mouser; ComponentLink2Description: http://www.supertex.com/pdf/datasheets/MD1210.pdf?src-supplier=Mouser; ComponentLink3URL: http://www.onlinecomponents.com/productFiles/mf-SUX/610md1210.pdf?src-supplier=Onlinecomponents.com; ComponentLink3Description: http://www.onlinecomponents.com/productFiles/mf-SUX/610md1210.pdf?src-supplier=Onlinecomponents.com; ComponentLink4URL: http://www.supertex.com/pdf/datasheets/MD1210.pdf?src-supplier=Avnet; ComponentLink4Description: http://www.supertex.com/pdf/datasheets/MD1210.pdf?src-supplier=Avnet
footprint QFN-12 4x4mm (0.8 mm pitch)
pins: 1 OE, 2 INA, 3 ING, 4 GND, 5 Vss1, 6 Vss2, 7 OUTB, 8 VH, 9 OUTA, 10 Vdd2, 11 Vdd1, 12 OE

## NMT0572SC
designator *
NMT0572SC; Manufacturer: Murata; Number of Outputs: 3; Output Power: 3W; Min Input Voltage: 4.5V; Output Voltage: -24V; Output Current: 126mA; Efficiency: 85%; Max Input Voltage: 5.5V; Max Output Current: 14mA; Nominal Input Voltage: 5V; Voltage - Output 2: -48V; Voltage - Output 3: -72V; Isolation Voltage: 1kV; Current - Output 1: 42mA; Isolation: Isolated; Supplier 1: Farnell; Manufacturer Part Number: NMT0572SC; Stock 1: 57; Pricing 1: 1=12.67, 5=12.62, 10=12.51, 25=12.38, 50=10.73 (EUR); Mount: Through Hole; Case/Package: SIP; Number of Pins: 6; Min Operating Temperature: -40°C; Max Operating Temperature: 85°C; Package Quantity: 23; Packaging: Rail/Tube; Min Input Voltage (DC): 4.5V; Max Input Voltage (DC): 5.5V; Voltage - Output 1: -24V; Current - Output 2: 126mA; Current - Output 3: 14mA; Max Output Power: 3W; Max Power Dissipation: 3W; Length: 21.8mm; Height: 0.44inch; Width: 0.3inch; Depth: 7.5mm; Radiation Hardening: No; REACH SVHC: No SVHC; ComponentLink1URL: http://uk.rs-online.com/webdocs/0da5/0900766b80da508a.pdf?src-supplier=RSComponents; ComponentLink1Description: http://uk.rs-online.com/webdocs/0da5/0900766b80da508a.pdf?src-supplier=RSComponents; ComponentLink2URL: http://www.murata-ps.com/data/power/ncl/kdc_nmt.pdf?src-supplier=Avnet+Europe; ComponentLink2Description: http://www.murata-ps.com/data/power/ncl/kdc_nmt.pdf?src-supplier=Avnet+Europe; ComponentLink3URL: http://power.murata.com/data/power/ncl/kdc_nmt.pdf?src-supplier=Digi-Key; ComponentLink3Description: http://power.murata.com/data/power/ncl/kdc_nmt.pdf?src-supplier=Digi-Key; ComponentLink4URL: http://power.murata.com/data/power/ncl/kdc_nmt.pdf?src-supplier=Avnet; ComponentLink4Description: http://power.murata.com/data/power/ncl/kdc_nmt.pdf?src-supplier=Avnet; ComponentLink5URL: http://www.farnell.com/datasheets/1790425.pdf?src-supplier=Element14; ComponentLink5Description: http://www.farnell.com/datasheets/1790425.pdf?src-supplier=Element14
footprint NMT0572SC
pins: 1 +Vin, 2 -Vin, 5 +Vout, 6 -Vout1, 7 -Vout2, 8 -Vout3

## TC6320TG-G
designator U?  (value not drawn)
TC6320TG-G; Manufacturer: Microchip Supertex; Rise Time: 15ns; Drain to Source Resistance: 8R; Turn-Off Delay Time: 20ns; Turn-On Delay Time: 10ns; Continuous Drain Current (ID): -2A; Drain to Source Breakdown Voltage: 200V; Number of Elements: 2; Supplier 1: Mouser; Manufacturer Part Number: TC6320TG-G; Stock 1: 4789; Pricing 1: 1=1.38, 10=1.36, 50=1.14, 100=1.04, 1000=1.04, 10000=1.04 (USD); Mount: Surface Mount; Case/Package: SOIC; Number of Pins: 8; Min Operating Temperature: -55°C; Max Operating Temperature: 150°C; Package Quantity: 2000; Packaging: Tape and Reel; Fall Time: 15ns; Radiation Hardening: No; ComponentLink1URL: http://www.onlinecomponents.com/productFiles/mf-SUX/218tc6320.pdf?src-supplier=Onlinecomponents.com; ComponentLink1Description: http://www.onlinecomponents.com/productFiles/mf-SUX/218tc6320.pdf?src-supplier=Onlinecomponents.com
footprint SOIC-8 (SOIC, 8-Leads, Body 4.9x3.9mm, Pitch 1.27mm, IPC Medium Density)
pins: 1 SN, 2 GN, 3 SP, 4 GP, 5 DP, 6 DP, 7 DN, 8 DN

## TESTPOINT
designator TP?  (value not drawn)
TESTPOINT
footprint TP_SMD_Ø1.0mm
pins: 1 TP

## TLV3501AIDBVR
designator U?
TLV3501 SOT-23 6 PINES; Manufacturer: Texas Instruments; Manufacturer Part Number: TLV3501AIDBVR; Common Mode Rejection Ratio: 70dB; Min Supply Voltage: 2.7V; Max Supply Voltage: 5.5V; Number of Elements: 1; Propagation Delay: 10ns; Nominal Supply Current: 5mA; Input Offset Voltage (Vos): 6.5mV; Power Supply Rejection Ratio (PSRR): 100dB; Response Time: 0.0045us; Input Bias Current: 10pA; Hysteresis: 6mV; Output Current: 74mA; Output Type: TTL; Supplier 1: Farnell; Stock 1: 0; Pricing 1: 3000=1.16, 6000=1.15, 9000=1.14 (EUR); Mount: Surface Mount; Case/Package: SOT-23-6; Number of Pins: 6; Contact Plating: Gold; Min Operating Temperature: -40°C; Max Operating Temperature: 125°C; Package Quantity: 3000; Packaging: Tape and Reel; Max Supply Current: 5mA; Number of Channels: 1; Quiescent Current: 5mA; Max Input Current: 10pA; Type: General Purpose; Radiation Hardening: No; Lead Free: Lead Free; REACH SVHC: No SVHC; ComponentLink1URL: http://www.ti.com/lit/ds/sbos321d/sbos321d.pdf?src-supplier=Avnet; ComponentLink1Description: http://www.ti.com/lit/ds/sbos321d/sbos321d.pdf?src-supplier=Avnet; ComponentLink2URL: http://www.ti.com/lit/ds/symlink/tlv3501.pdf?src-supplier=Digi-Key; ComponentLink2Description: http://www.ti.com/lit/ds/symlink/tlv3501.pdf?src-supplier=Digi-Key; ComponentLink3URL: https://www.verical.com/server-webapp/html/getDatasheet?partID=241545&src-supplier=Verical; ComponentLink3Description: https://www.verical.com/server-webapp/html/getDatasheet?partID=241545&src-supplier=Verical; ComponentLink4URL: http://datasheet.iiic.cc/texas_instruments/TLV3501AIDBVR.pdf?src-supplier=IIIC; ComponentLink4Description: http://datasheet.iiic.cc/texas_instruments/TLV3501AIDBVR.pdf?src-supplier=IIIC
footprint SOT-23-6 (SOT23, 6-Leads, Body 3.00x2.85mm, Pitch 0.95mm, IPC Medium Density)
pins: 1 -IN, 2 V-, 3 +IN, 4 V+, 5 OUT, 6 SHDN

## TLV3502AIDCNR
designator U?  (value not drawn)
TLV3502 SOT-23 8 PINES; Manufacturer: Texas Instruments; Manufacturer Part Number: TLV3502AIDCNR; Max Supply Voltage: 5.5V; Min Supply Voltage: 2.7V; Common Mode Rejection Ratio: 70dB; Nominal Supply Current: 5mA; Number of Elements: 2; Propagation Delay: 10ns; Input Offset Voltage (Vos): 6.5mV; Input Bias Current: 10pA; Hysteresis: 6mV; Power Supply Rejection Ratio (PSRR): 100dB; Response Time: 0.0045us; Output Current: 74mA; Output Type: TTL; Supplier 1: Farnell; Stock 1: 1230; Pricing 1: 1=3.85, 10=3.09, 25=2.91, 50=2.72, 100=2.54, 250=2.39, 500=2.16, 1000=1.75 (EUR); Mount: Surface Mount; Case/Package: SOT-23-8; Number of Pins: 8; Min Operating Temperature: -40°C; Max Operating Temperature: 125°C; Packaging: Tape and Reel; Package Quantity: 3000; Quiescent Current: 5mA; Max Supply Current: 5mA; Number of Channels: 2; Type: General Purpose; Max Input Current: 10pA; Radiation Hardening: No; Lead Free: Lead Free; ComponentLink1URL: http://www.ti.com/lit/ds/sbos321d/sbos321d.pdf?src-supplier=Avnet; ComponentLink1Description: http://www.ti.com/lit/ds/sbos321d/sbos321d.pdf?src-supplier=Avnet; ComponentLink2URL: https://www.verical.com/server-webapp/html/getDatasheet?partID=319815&src-supplier=Verical; ComponentLink2Description: https://www.verical.com/server-webapp/html/getDatasheet?partID=319815&src-supplier=Verical; ComponentLink3URL: http://www.ti.com/lit/ds/symlink/tlv3501.pdf?src-supplier=Digi-Key; ComponentLink3Description: http://www.ti.com/lit/ds/symlink/tlv3501.pdf?src-supplier=Digi-Key
footprint SOT-23-8 (SOT23, 6-Leads, Body 2,90x2,80mm, Pitch 0,65mm, IPC Medium Density)
pins: 1 +IN A, 2 -IN A, 3 +IN B, 4 -IN B, 5 v-, 6 OUT B, 7 OUT A, 8 v+